# Altium schematic symbol library DSPIC33EP256GP502.SchLib: 1 symbol
Pins are listed as number, name and electrical type; pins without a type are passive.

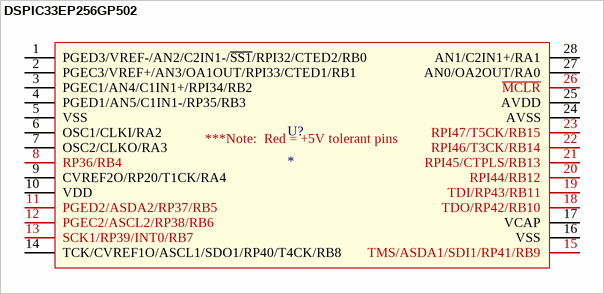
[diagram p0: symbol DSPIC33EP256GP502]

## DSPIC33EP256GP502
designator U?
pins: 1 PGED3/VREF-/AN2/C2IN1-/~{SS1}/RPI32/CTED2/RB0, 2 PGEC3/VREF+/AN3/OA1OUT/RPI33/CTED1/RB1, 3 PGEC1/AN4/C1IN1+/RPI34/RB2, 4 PGED1/AN5/C1IN1-/RP35/RB3, 5 VSS, 6 OSC1/CLKI/RA2, 7 OSC2/CLKO/RA3, 8 RP36/RB4, 9 CVREF2O/RP20/T1CK/RA4, 10 VDD, 11 PGED2/ASDA2/RP37/RB5, 12 PGEC2/ASCL2/RP38/RB6, 13 SCK1/RP39/INT0/RB7, 14 TCK/CVREF1O/ASCL1/SDO1/RP40/T4CK/RB8, 15 TMS/ASDA1/SDI1/RP41/RB9, 16 VSS, 17 VCAP, 18 TDO/RP42/RB10, 19 TDI/RP43/RB11, 20 RPI44/RB12, 21 RPI45/CTPLS/RB13, 22 RPI46/T3CK/RB14, 23 RPI47/T5CK/RB15, 24 AVSS, 25 AVDD, 26 ~{MCLR}, 27 AN0/OA2OUT/RA0, 28 AN1/C2IN1+/RA1
1 alternate drawing of the same symbol
text: ***Note:  Red = +5V tolerant pins